# EAGLE library part B15B-PH-* (library jst-ph)
Wire-to-Board 2.0mm pitch top mount connector Source: http://www.jst-mfg.com/product/pdf/jpn/PH.pdf http://www.jst-mfg.com/product/detail.php?series=199
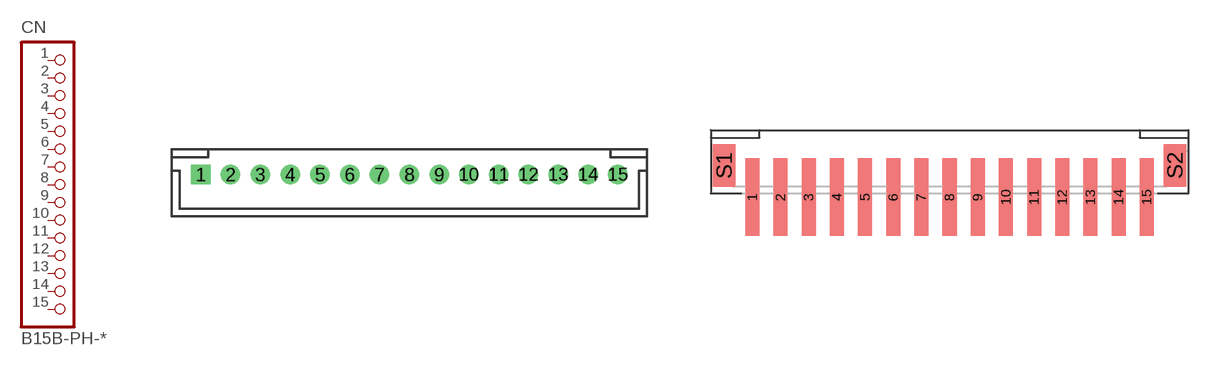
[diagram p9: symbol with the pads of B15B-PH-K-S; footprints B15B-PH-K-S, B15B-PH-SM4-TB]

Designator prefix CN

## B15B-PH-K-S  [B15B-PH-K-S]
1  1  pas
2  2  pas
3  3  pas
4  4  pas
5  5  pas
6  6  pas
7  7  pas
8  8  pas
9  9  pas
10  10  pas
11  11  pas
12  12  pas
13  13  pas
14  14  pas
15  15  pas

## B15B-PH-SM4-TB  [B15B-PH-SM4-TB]
Pads as for B15B-PH-K-S

## Footprint B15B-PH-K-S (pad centres in mm)
drill 0.8 square: 1 -14,0
drill 0.8: 2 -12,0; 3 -10,0; 4 -8,0; 5 -6,0; 6 -4,0; 7 -2,0; 8 0,0; 9 2,0; 10 4,0; 11 6,0; 12 8,0; 13 10,0; 14 12,0; 15 14,0

## Footprint B15B-PH-SM4-TB (pad centres in mm)
smd 1 x 5.5: 1 -14,-3.05; 2 -12,-3.05; 3 -10,-3.05; 4 -8,-3.05; 5 -6,-3.05; 6 -4,-3.05; 7 -2,-3.05; 8 0,-3.05; 9 2,-3.05; 10 4,-3.05; 11 6,-3.05; 12 8,-3.05; 13 10,-3.05; 14 12,-3.05; 15 14,-3.05
smd 1.6 x 3: S1 -16,-0.8; S2 16,-0.8